# EAGLE library part OPAMP-DUAL-STYLE2 (library ryans-common-components)
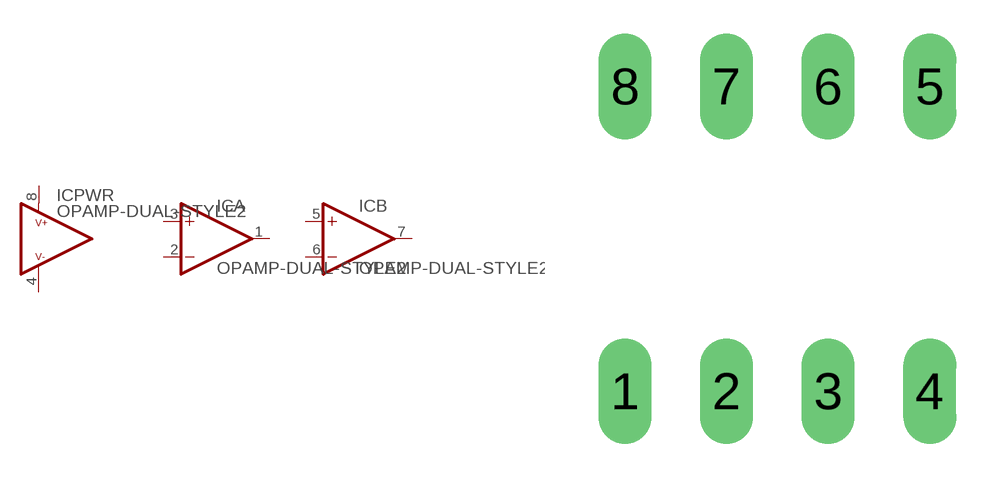
[diagram p16: symbol with the pads of DIL08-SOCKET; footprint DIL08-SOCKET]

Designator prefix IC; gates PWR=OPAMP-PWR A=OPAMP-MULT B=OPAMP-MULT

## OPAMP-DUAL-STYLE2-DIP8-SOCKET  [DIL08-SOCKET]
1  A:OUT
2  A:IN-
3  A:IN+
4  PWR:V-
5  B:IN+
6  B:IN-
7  B:OUT
8  PWR:V+

## Footprint DIL08-SOCKET (pad centres in mm)
drill 0.813 long: 1 -3.81,-3.81; 2 -1.27,-3.81; 3 1.27,-3.81; 4 3.81,-3.81; 5 3.81,3.81; 6 1.27,3.81; 7 -1.27,3.81; 8 -3.81,3.81